# Altium footprint library SIP8-SPE-TMR2.PcbLib: 1 footprints
Each footprint in its own frame and in the unit in brackets; x right, y up, seen from the top. Pads: shape width x height; smd on the part's side, far side on the other; paste and mask are expansions set on the pad; w line width, h text height; cw(c..) or ccw(c..) is an arc to the next point about the centre after c.
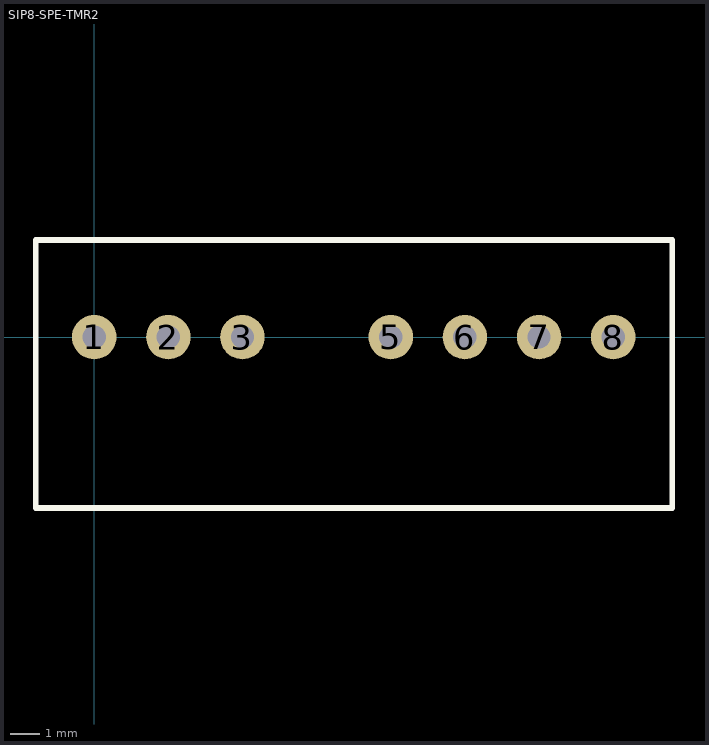
[diagram p0: the footprint, top view; thin cyan lines are the x and y axes]

## SIP8-SPE-TMR2 [mil] "SIP 08 pins TRACO package"
height 437.01
pads (7):
  round 60 hole 31.5: 1(0,0) 2(100,0) 3(200,0) 5(400,0) 6(500,0) 7(600,0) 8(700,0)
Top Overlay:
  lines w7.87: -78.74,-230.71 -78.74,131.1 779.53,131.1 779.53,-230.71 -78.74,-230.71
3D body: height 437.01, standoff 0, extent -80,-230 780,130